# Altium footprint library 61304011121-5.PcbLib: 1 footprints
Each footprint in its own frame and in the unit in brackets; x right, y up, seen from the top. Pads: shape width x height; smd on the part's side, far side on the other; paste and mask are expansions set on the pad; w line width, h text height; cw(c..) or ccw(c..) is an arc to the next point about the centre after c.
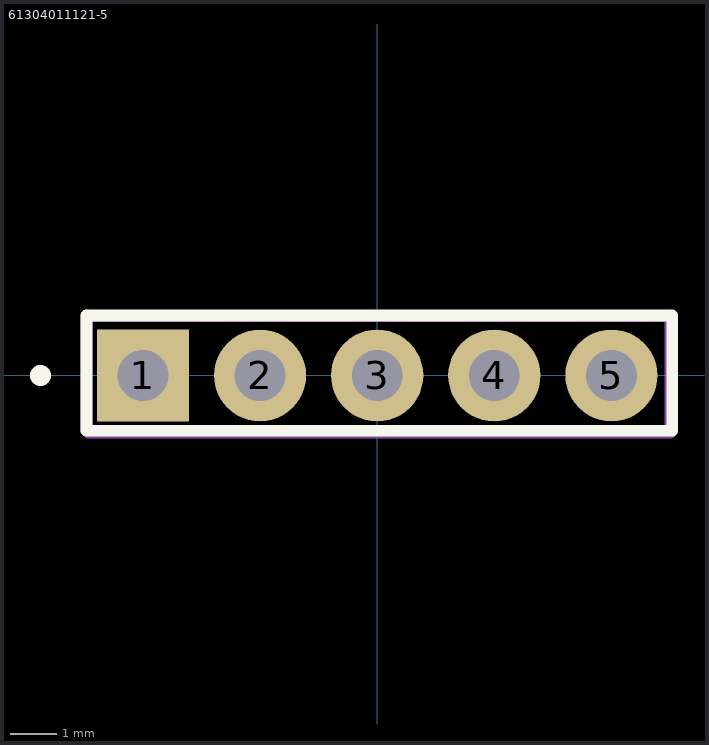
[diagram p0: the footprint, top view; thin cyan lines are the x and y axes]

## 61304011121-5 [mm]
pads (5):
  rect 2x2 hole 1.1 mask+0.051: 1(-5.077,0)
  round 2 hole 1.1 mask+0.051: 2(-2.537,0) 3(0.003,0) 4(2.543,0) 5(5.083,0)
Top Overlay:
  circle w0.254: c-7.3,0 r0.1
  lines w0.254: -6.3,-1.2 -6.3,1.3 -0.1,1.3 6.4,1.3 6.4,-1.2 -6.3,-1.2
Mechanical 13:
  lines w0.254: -6.3,-1.2 -6.264,-1.236 6.364,-1.236 6.364,1.283 -6.283,1.283 -6.3,1.3 -6.3,-1.2
Mechanical 15:
  lines w0.254: -0.397,0 0.003,0 ; 0.003,0.05 0.003,0 ; 0.503,0 0.003,0 ; 0.003,0 0.003,0.5 0.003,-0.4 0.003,0
3D body "61304011121-5.stp": height 8.34, standoff -3.05, extent -6.347,-1.272 6.353,1.268